# EAGLE library part AZ34063U (library IC)
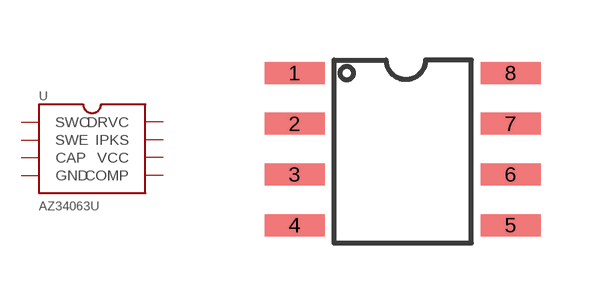
[diagram p2: symbol with the pads of SOIC-3.9MM-8; footprint SOIC-3.9MM-8]

Designator prefix U

## AZ34063U  [SOIC-3.9MM-8]
1  SWC
2  SWE
3  CAP
4  GND
5  COMP
6  VCC
7  IPKS
8  DRVC

## Footprint SOIC-3.9MM-8 (pad centres in mm)
smd 1.5 x 0.55: 1 -2.699,2.064; 2 -2.699,0.794; 3 -2.699,-0.476; 4 -2.699,-1.746; 5 2.701,-1.746; 6 2.701,-0.476; 7 2.701,0.794; 8 2.701,2.064